# EAGLE library part AE4575H-1575.5 (library saw-filters-narrowband)
AE4575H-1575.5 Параметр Ед. изм. Мин. значение Тип. значение Макс. значение Центральная частота МГц 1573.5 1575.5 1577.5 Минимальное вносимое затухание дБ - 4 4.5 Полоса среза по уровню -1 дБ МГц 13 13.5 - Полоса среза по уровню -25 дБ МГц - 55 - Неравномерность АЧХ дБ - 0.5 1 Групповое время задержки нс - - - Гарантированное затухание дБ - 35 - Температурный диапазон °C -55 22 +85 Материал подложки - - Танталат лития 36 -
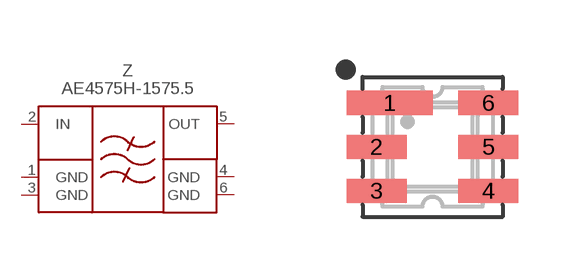
[diagram p10: symbol with the pads of DCC6; footprint DCC6]

Designator prefix Z

## AE4575H-1575.5  [DCC6]
1  GND  pwr
2  IN  in
3  GND  pwr
4  GND  pwr
5  OUT  out
6  GND  pwr

## Footprint DCC6 (pad centres in mm)
smd 2.15 x 0.6: 1 -1.075,1.1
smd 1.5 x 0.6: 2 -1.4,0; 3 -1.4,-1.1; 4 1.4,-1.1; 5 1.4,0; 6 1.4,1.1